# Altium integrated library 3028.IntLib: 1 symbol
Pins are listed as number, name and electrical type; pins without a type are passive.

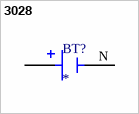
[diagram p0: symbol 3028]

## 3028
designator BT?
SMT Holder for 2012 Cell-Tin Nickel Plate | Keystone Electronics 3028; MP: 3028; SnapEDA_Link: https://www.snapeda.com/parts/3028/Keystone/view-part/?ref=snap; Package: NON STANDARD-2 Keystone; Value: *; MF: Keystone Electronics; Check_prices: https://www.snapeda.com/parts/3028/Keystone/view-part/?ref=eda
footprint BAT_3028
pins: N NEG, P1 POS, P2 POS